# Altium footprint library MOLEX_2023960807.PcbLib: 1 footprints
Each footprint in its own frame and in the unit in brackets; x right, y up, seen from the top. Pads: shape width x height; smd on the part's side, far side on the other; paste and mask are expansions set on the pad; w line width, h text height; cw(c..) or ccw(c..) is an arc to the next point about the centre after c.
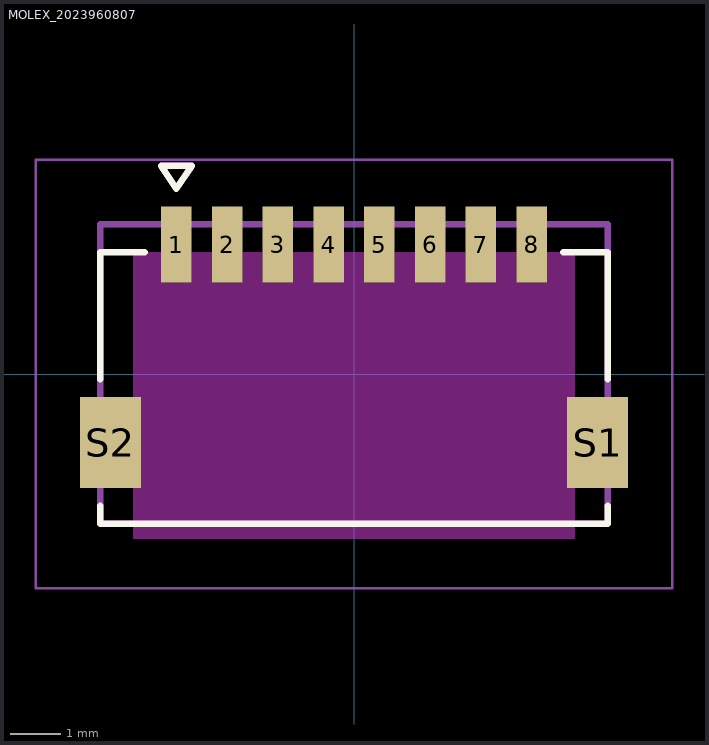
[diagram p0: the footprint, top view; thin cyan lines are the x and y axes]

## MOLEX_2023960807 [mm]
height 4.7
pads (10):
  rect 0.6x1.5 smd mask+0.076: 1(-3.5,2.55) 2(-2.5,2.55) 3(-1.5,2.55) 4(-0.5,2.55) 5(0.5,2.55) 6(1.5,2.55) 7(2.5,2.55) 8(3.5,2.55)
  rect 1.2x1.8 smd mask+0.076: S1(4.8,-1.35) S2(-4.8,-1.35)
Top Overlay:
  lines w0.127: -5,-2.6 -5,-2.95 5,-2.95 5,-2.6 ; -5,-0.1 -5,2.4 -4.12,2.4 ; 4.12,2.4 5,2.4 5,-0.1 ; -3.8,4.1 -3.2,4.1 -3.5,3.65 -3.8,4.1
Keep-Out Layer:
  region: 4.35,-0.445 4.195,-0.445 4.195,-2.255 4.35,-2.255 4.35,-3.25 -4.35,-3.25 -4.35,-2.255 -4.195,-2.255 -4.195,-0.445 -4.35,-0.445 -4.35,2.4 -3.805,2.4 -3.805,1.795 -3.195,1.795 -3.195,2.4 -2.805,2.4 -2.805,1.795 -2.195,1.795 -2.195,2.4 -1.805,2.4 -1.805,1.795 -1.195,1.795 -1.195,2.4 -0.805,2.4 -0.805,1.795 -0.195,1.795 -0.195,2.4 0.195,2.4 0.195,1.795 0.805,1.795 0.805,2.4 1.195,2.4 1.195,1.795 1.805,1.795 1.805,2.4 2.195,2.4 2.195,1.795 2.805,1.795 2.805,2.4 3.195,2.4 3.195,1.795 3.805,1.795 3.805,2.4 4.35,2.4
Mechanical 13:
  lines w0.127: -5,-2.95 5,-2.95 5,2.95 -5,2.95 -5,-2.95 ; -3.8,4.1 -3.2,4.1 -3.5,3.65 -3.8,4.1
Mechanical 15:
  lines w0.05: -6.27,-4.22 -6.27,4.22 6.27,4.22 6.27,-4.22 -6.27,-4.22